# Altium footprint library screwire.PcbLib: 148 footprints (part 9 of 10)
Each footprint in its own frame and in the unit in brackets; x right, y up, seen from the top. Pads: shape width x height; smd on the part's side, far side on the other; paste and mask are expansions set on the pad; w line width, h text height; cw(c..) or ccw(c..) is an arc to the next point about the centre after c.
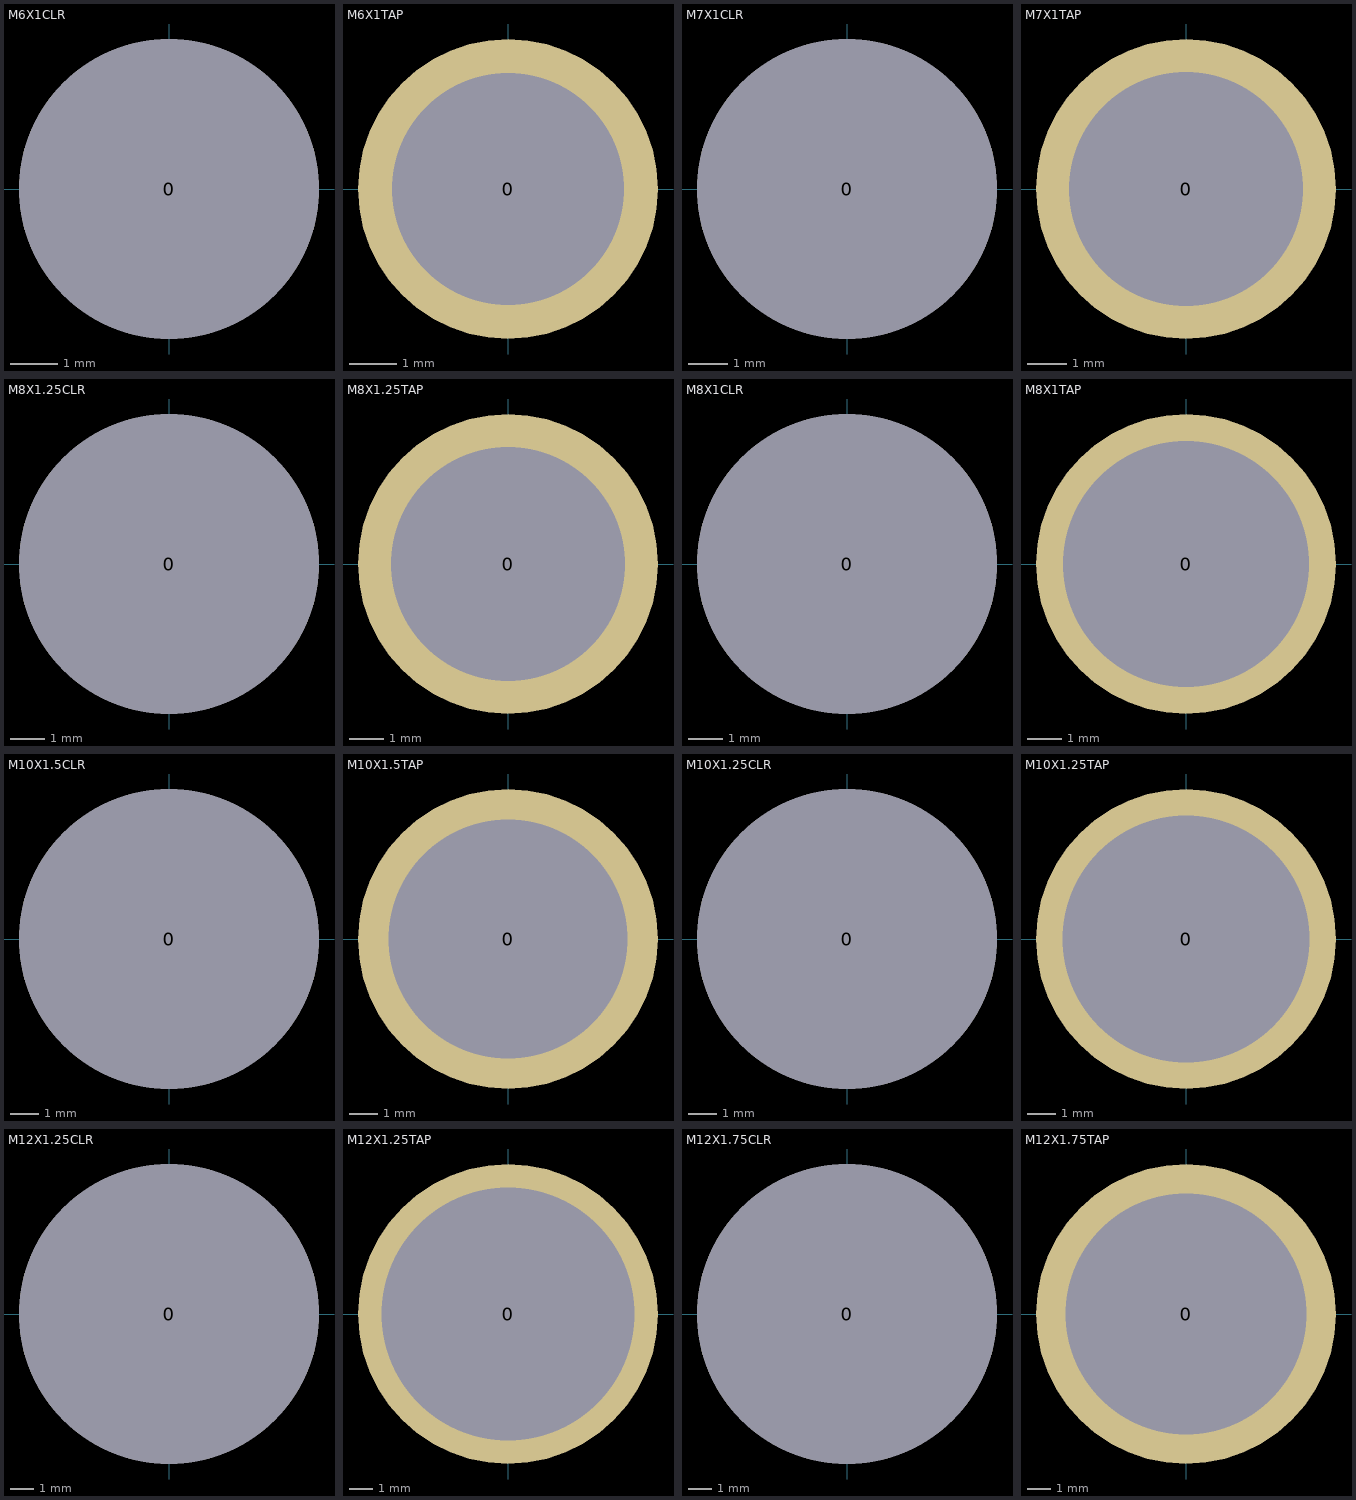
[diagram p8: the footprints below, top view; thin cyan lines are the x and y axes]

## M6X1CLR [mil]
pads (1):
  round 252 hole 252: 0(0,0)

## M6X1TAP [mil]
pads (1):
  round 252 hole 195: 0(0,0)

## M7X1CLR [mil]
pads (1):
  round 300 hole 300: 0(0,0)

## M7X1TAP [mil]
pads (1):
  round 300 hole 234: 0(0,0)

## M8X1.25CLR [mil]
pads (1):
  round 339 hole 339: 0(0,0)

## M8X1.25TAP [mil]
pads (1):
  round 339 hole 264: 0(0,0)

## M8X1CLR [mil]
pads (1):
  round 339 hole 339: 0(0,0)

## M8X1TAP [mil]
pads (1):
  round 339 hole 278: 0(0,0)

## M10X1.5CLR [mil]
pads (1):
  round 417 hole 417: 0(0,0)

## M10X1.5TAP [mil]
pads (1):
  round 417 hole 332: 0(0,0)

## M10X1.25CLR [mil]
pads (1):
  round 417 hole 417: 0(0,0)

## M10X1.25TAP [mil]
pads (1):
  round 417 hole 344: 0(0,0)

## M12X1.25CLR [mil]
pads (1):
  round 500 hole 500: 0(0,0)

## M12X1.25TAP [mil]
pads (1):
  round 500 hole 422: 0(0,0)

## M12X1.75CLR [mil]
pads (1):
  round 500 hole 500: 0(0,0)

## M12X1.75TAP [mil]
pads (1):
  round 500 hole 402: 0(0,0)